# Altium footprint library FSMRA6JH.PcbLib: 1 footprints
Each footprint in its own frame and in the unit in brackets; x right, y up, seen from the top. Pads: shape width x height; smd on the part's side, far side on the other; paste and mask are expansions set on the pad; w line width, h text height; cw(c..) or ccw(c..) is an arc to the next point about the centre after c.
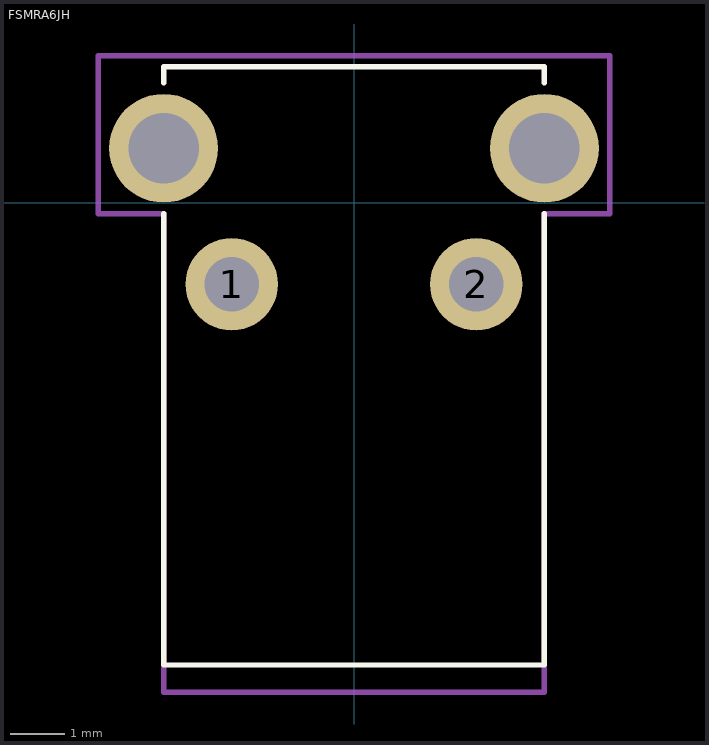
[diagram p0: the footprint, top view; thin cyan lines are the x and y axes]

## FSMRA6JH [mm]
pads (4):
  round 1.7 hole 1 mask+0: 1(-2.25,-1.5) 2(2.25,-1.5)
  round 2 hole 1.3 mask+0: ""(-3.5,1) ""(3.5,1)
Top Overlay:
  lines w0.1: -3.5,-0.2 -3.5,-8.5 3.5,-8.5 3.5,-0.2 ; -3.5,2.2 -3.5,2.5 3.5,2.5 3.5,2.2
Mechanical 3:
  lines w0.1: -4.7,-0.2 -3.5,-0.2 -3.5,-9 3.5,-9 3.5,-0.2 4.7,-0.2 4.7,2.7 -4.7,2.7 -4.7,-0.2
Mechanical 5:
  lines w0.1: -4.7,-0.2 -3.5,-0.2 -3.5,-9 3.5,-9 3.5,-0.2 4.7,-0.2 4.7,2.7 -4.7,2.7 -4.7,-0.2
Mechanical 7:
  lines w0.1: -4.7,-0.2 -4.7,2.7 4.7,2.7 4.7,-0.2 3.5,-0.2 3.5,-9 -0.1,-9 -3.5,-9 -3.5,-0.2 -4.7,-0.2
Mechanical 9:
  text "'.Designator'" at -5.6,-3.9 h1
3D body "c-1-1825027-7-g-3d.stp": height 7, standoff -3.52, extent -4.204,-8.342 4.204,2.517
3D body: height 1, standoff 0, extent -4.7,-9 4.7,2.7